# EAGLE library part POT_ALPS_RK09 (library wheat)
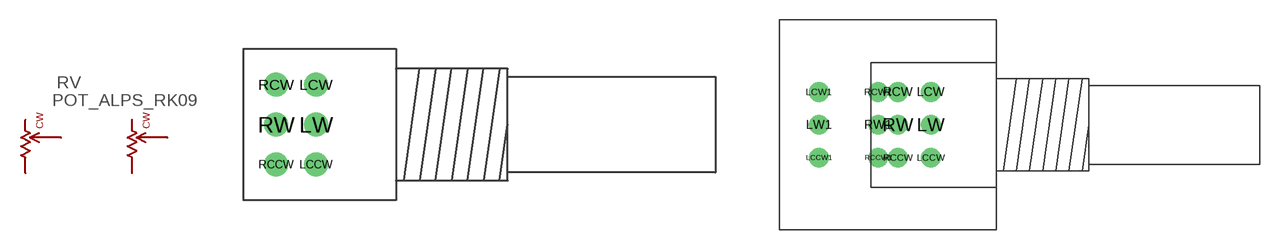
[diagram p236: symbol with the pads of POT_ALPS_RK09; footprints POT_ALPS_RK09, POT_RK09_CP600]

Designator prefix RV

## POT_ALPS_RK09  [POT_ALPS_RK09]
LCCW  CCW1  pas
LCW  CW1  pas
LW  W1  pas
RCCW  CCW2  pas
RCW  CW2  pas
RW  W2  pas

## POT_ALPS_RK09_CP600  [POT_RK09_CP600]
LCCW  CCW1  pas
LCCW1  CCW1  pas
LCW  CW1  pas
LCW1  CW1  pas
LW  W1  pas
LW1  W1  pas
RCCW  CCW2  pas
RCCW1  CCW2  pas
RCW  CW2  pas
RCW1  CW2  pas
RW  W2  pas
RW1  W2  pas

## Footprint POT_ALPS_RK09 (pad centres in mm)
drill 1: LCCW -5,-2.5; LCW -5,2.5; LW -5,0; RCCW -7.5,-2.5; RCW -7.5,2.5; RW -7.5,0

## Footprint POT_RK09_CP600 (pad centres in mm)
drill 1: LCCW -5,-2.5; LCCW1 -13.5,-2.5; LCW -5,2.5; LCW1 -13.5,2.5; LW -5,0; LW1 -13.5,0; RCCW -7.5,-2.5; RCCW1 -9,-2.5; RCW -7.5,2.5; RCW1 -9,2.5; RW -7.5,0; RW1 -9,0